# EAGLE library part TPS63031DSKT_TPS63031DSKT (library SolarPowerBoard)
High Efficient Single Inductor Buck-Boost Converter with 1-A Switches Source: Datasheet <http://www.ti.com/lit/gpn/tps63031>
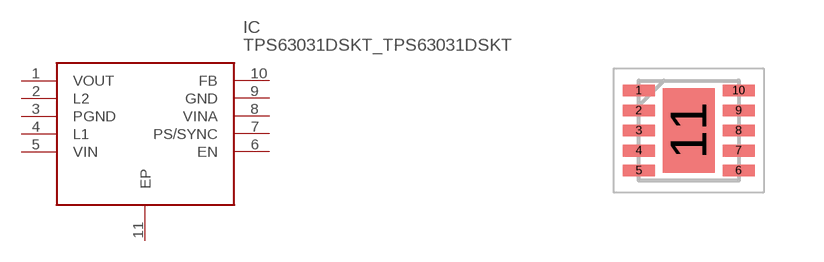
[diagram p7: symbol with the pads of TPS63031DSKT_SON50P250X250X80-11N; footprint TPS63031DSKT_SON50P250X250X80-11N]

Designator prefix IC

## TPS63031DSKT_TPS63031DSKT (ARROW_PART_NUMBER: TPS63031DSKT; ARROW_PRICE-STOCK: https://www.arrow.com/en/products/tps63031dskt/texas-instruments; DESCRIPTION: High Efficient Single Inductor Buck-Boost Converter with 1-A Switches; HEIGHT: 0.8mm; MANUFACTURER_NAME: Texas Instruments; MANUFACTURER_PART_NUMBER: TPS63031DSKT; RS_PART_NUMBER: 6989091P; RS_PRICE-STOCK: http://uk.rs-online.com/web/p/products/6989091P)  [TPS63031DSKT_SON50P250X250X80-11N]
1  VOUT
2  L2
3  PGND
4  L1
5  VIN
6  EN
7  PS/SYNC
8  VINA
9  GND
10  FB
11  EP

## Footprint TPS63031DSKT_SON50P250X250X80-11N (pad centres in mm)
DSK(S-PDSO-N10)
smd 0.8 x 0.3: 1 -1.25,1; 2 -1.25,0.5; 3 -1.25,0; 4 -1.25,-0.5; 5 -1.25,-1; 6 1.25,-1; 7 1.25,-0.5; 8 1.25,0; 9 1.25,0.5; 10 1.25,1
smd 1.3 x 2.1: 11 0,0